# Altium footprint library RLC_CHIP_SMD.PcbLib: 17 footprints (part 2 of 2)
Each footprint in its own frame and in the unit in brackets; x right, y up, seen from the top. Pads: shape width x height; smd on the part's side, far side on the other; paste and mask are expansions set on the pad; w line width, h text height; cw(c..) or ccw(c..) is an arc to the next point about the centre after c.
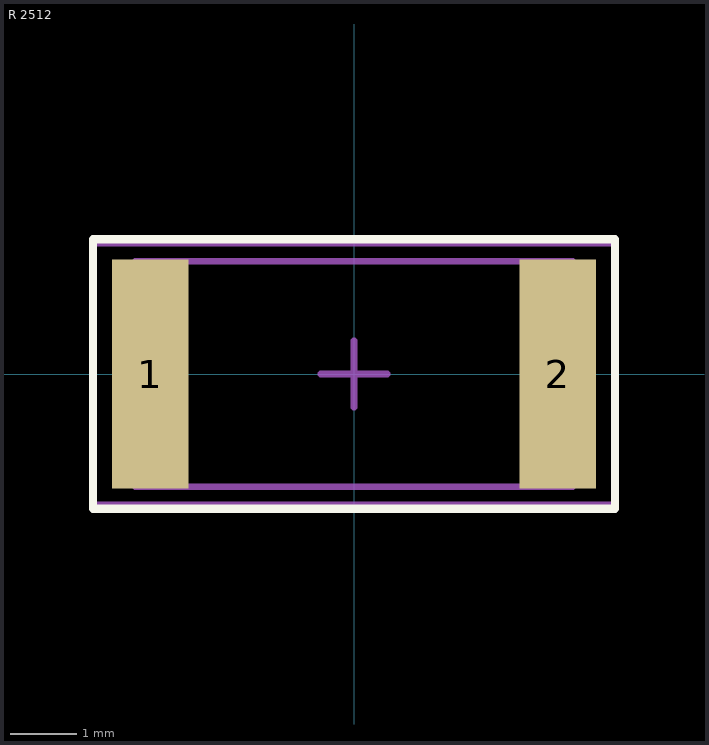
[diagram p1: the footprint, top view; thin cyan lines are the x and y axes]

## R 2512 [mm] "Chip Resistor, 2-Leads, Body 6.4x3.2mm, IPC Medium Density"
height 0.8
pads (2):
  rect 1.15x3.45 smd: 1(-3.075,0) 2(3.075,0)
Top Overlay:
  lines w0.127: -3.937,-2.032 3.937,-2.032 3.937,2.032 -3.937,2.032 -3.937,-2.032
Mechanical 13:
  lines w0.1: -3.3,-1.7 -3.3,1.7 3.3,1.7 3.3,-1.7 -3.3,-1.7
Mechanical 15:
  lines w0.1: -0.5,0 0.5,0 ; 0,-0.5 0,0.5 ; -3.925,-1.975 -3.925,1.975 3.925,1.975 3.925,-1.975 -3.925,-1.975
3D body "User Library-Chip Resistor2 (3).step": height 0.76, standoff 0, extent -3.2,-1.6 3.2,1.6